# EAGLE library part TPS7A88 (library My_TI)
TPS7A88 Dual, 1-A, Low-Noise (3.8-µVRMS), LDO Voltage Regulator Datasheet <http://www.ti.com/lit/ds/symlink/tps7a88.pdf>
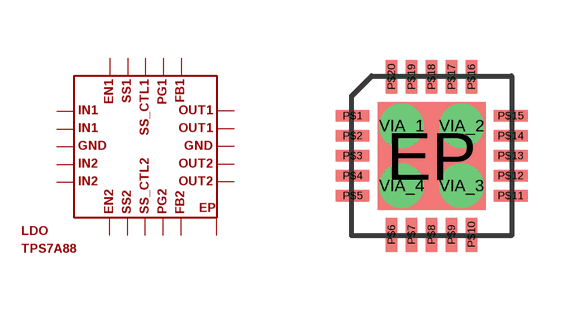
[diagram p48: symbol with the pads of QFN20_4X4; footprint QFN20_4X4]

Designator prefix LDO

## TPS7A88  [QFN20_4X4]
EP  P$1
P$1  1
P$2  2
P$3  3
P$4  4
P$5  5
P$6  6
P$7  7
P$8  8
P$9  9
P$10  10
P$11  11
P$12  12
P$13  13
P$14  14
P$15  15
P$16  16
P$17  17
P$18  18
P$19  19
P$20  20
VIA_1  P$1
VIA_2  P$1
VIA_3  P$1
VIA_4  P$1

## Footprint QFN20_4X4 (pad centres in mm)
smd 2.7 x 2.7: EP 0,0
smd 0.85 x 0.28: P$1 -1.975,1; P$2 -1.975,0.5; P$3 -1.975,0; P$4 -1.975,-0.5; P$5 -1.975,-1; P$11 1.975,-1; P$12 1.975,-0.5; P$13 1.975,0; P$14 1.975,0.5; P$15 1.975,1
smd 0.28 x 0.85: P$6 -1,-1.975; P$7 -0.5,-1.975; P$8 0,-1.975; P$9 0.5,-1.975; P$10 1,-1.975; P$16 1,1.975; P$17 0.5,1.975; P$18 0,1.975; P$19 -0.5,1.975; P$20 -1,1.975
drill 0.6: VIA_1 -0.75,0.75; VIA_2 0.75,0.75; VIA_3 0.75,-0.75; VIA_4 -0.75,-0.75